# Altium integrated library Analog Devices Interface and Isolation Level Translators.IntLib: 67 symbols (part 2 of 3)
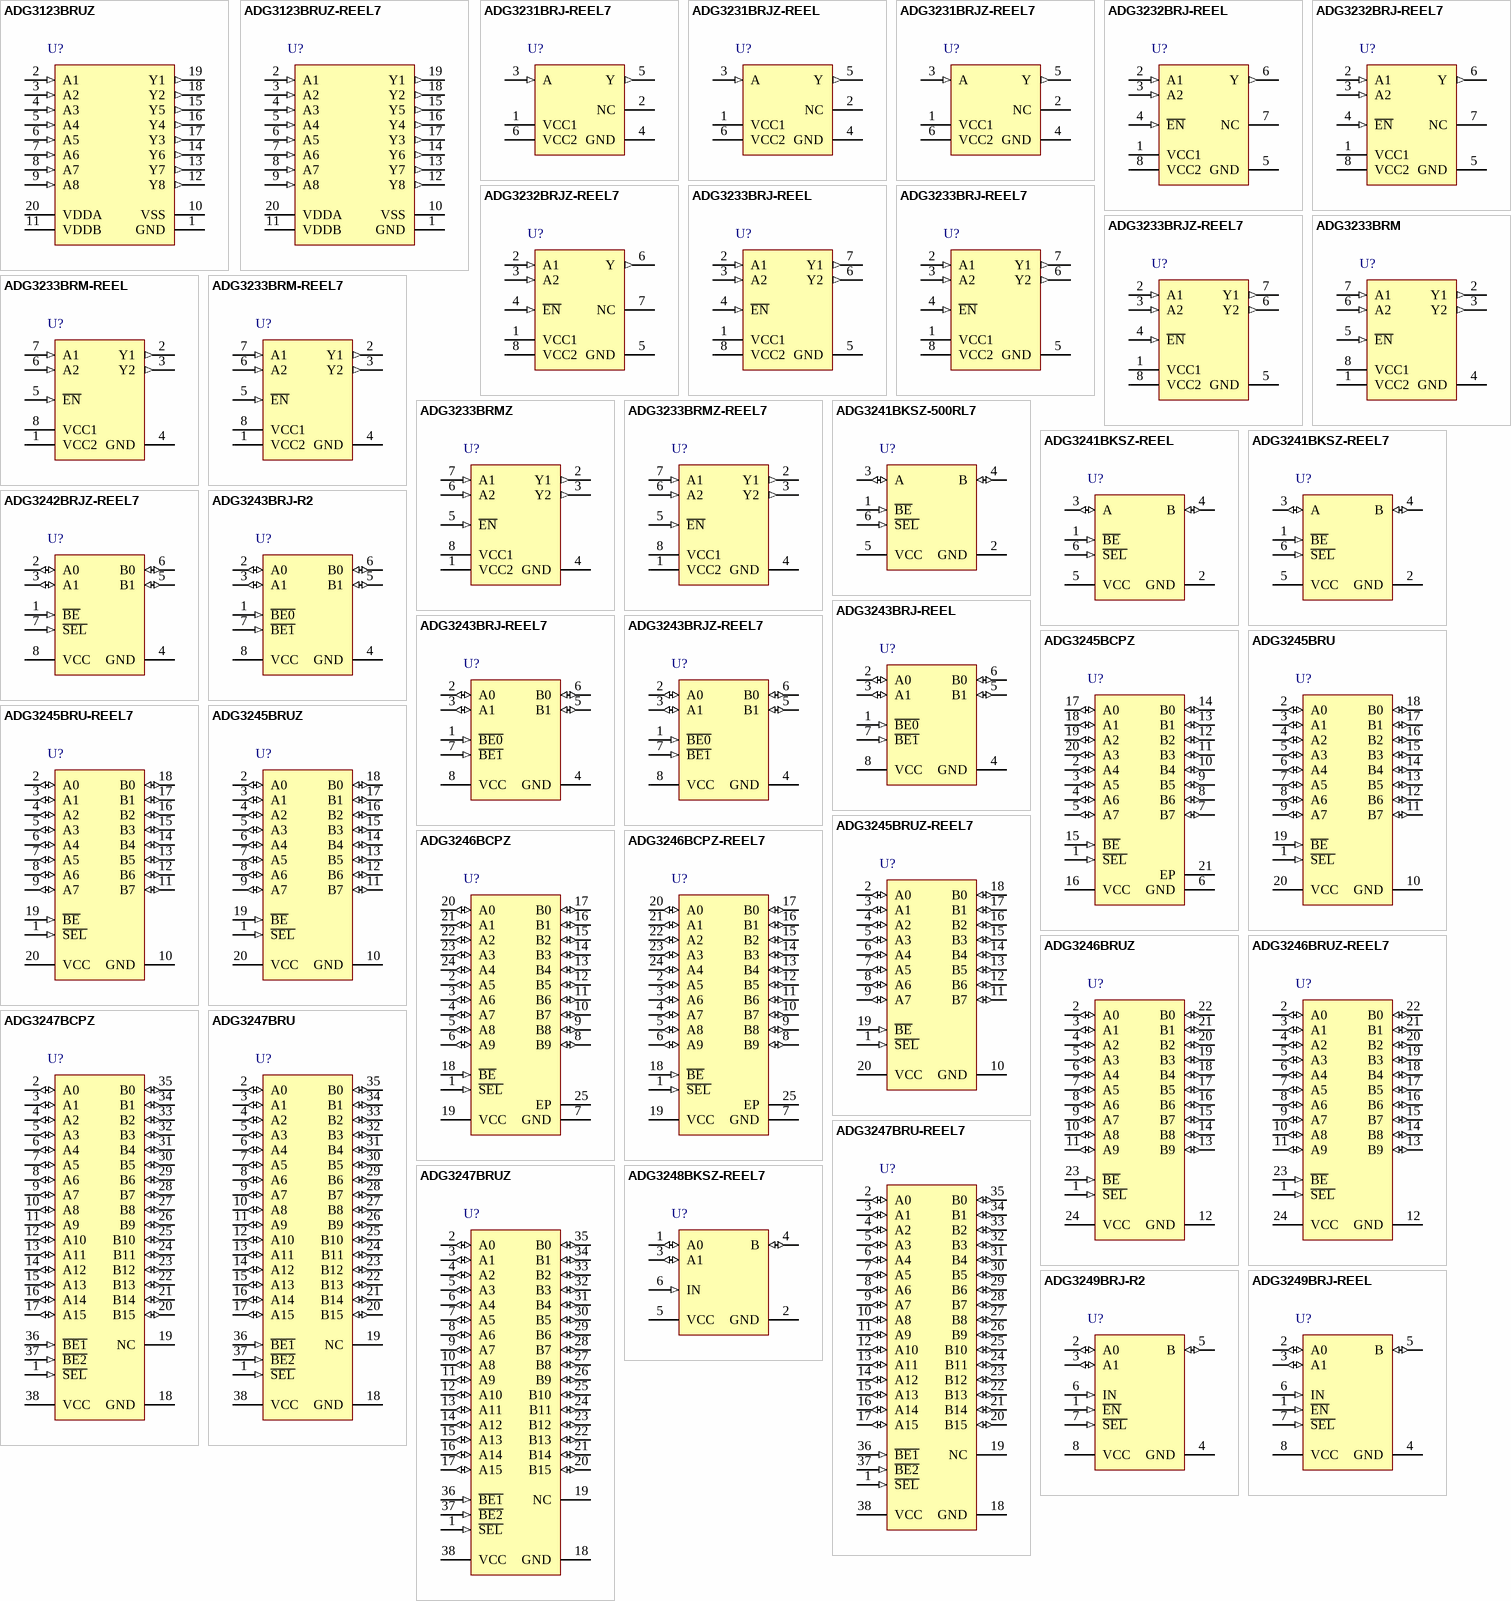
[diagram p2: symbols ADG3123BRUZ to ADG3249BRJ-REEL]

## ADG3245BRUZ-REEL7
designator U?
1244 Mbps, 2.5 V / 3.3 V, 8-Bit, 2-Port Level Translating, Bus Switch, 225 ps Prop Delay, -40 to 85 degC, 20-pin SOP (RU-20), Reel; Manufacturer: Analog Devices; PartNumber: ADG3245BRUZ-REEL7; ICC1: 1uA; DatasheetVersion: Rev. A; PackageVersion: Jan-03; PackageReference: RU-20; PackageDescription: 20-Pin Thin Shrink Small Outline Package, Body 6.5 x 4.4 mm, Pitch 0.65 mm; Supplier 1: Digi-Key; Supplier Part Number 1: ADG3245BRUZ-REEL7-ND; Supplier 2: Newark; Supplier Part Number 2: 59K1208; Supplier 3: Mouser; Supplier Part Number 3: 584-ADG3245BRUZ-R7; Data Rate (typ): 1244Mbps; Packing: Reel; Mounting Technology: Surface Mount; Code_JEDEC: MO-153AC; ComponentLink1Description: Manufacturer URL; ComponentLink1URL: http://www.analog.com/en/index.html; ComponentLink2Description: Datasheet; ComponentLink2URL: http://www.analog.com/static/imported-files/data_sheets/ADG3245.pdf; ComponentLink3Description: Package Specification; ComponentLink3URL: http://www.analog.com/static/imported-files/packages/364515793657813558433715854054607941441RU20.pdf
footprint ADI-RU-20_N (SOP, 20-Leads, Body 6.5x4.4mm, Pitch 0.65mm, IPC Medium Density)
footprint ADI-RU-20_L (SOP, 20-Leads, Body 6.5x4.4mm, Pitch 0.65mm, IPC High Density)
footprint ADI-RU-20_M (SOP, 20-Leads, Body 6.5x4.4mm, Pitch 0.65mm, IPC Low Density)
pins: 1 ~{SEL} (in) "Level Translation Select", 2 A0 (io) "Port A, Inputs or Outputs", 3 A1 (io) "Port A, Inputs or Outputs", 4 A2 (io) "Port A, Inputs or Outputs", 5 A3 (io) "Port A, Inputs or Outputs", 6 A4 (io) "Port A, Inputs or Outputs", 7 A5 (io) "Port A, Inputs or Outputs", 8 A6 (io) "Port A, Inputs or Outputs", 9 A7 (io) "Port A, Inputs or Outputs", 10 GND (power) "Ground (0 V) Reference.", 11 B7 (io) "Port B, Inputs or Outputs", 12 B6 (io) "Port B, Inputs or Outputs", 13 B5 (io) "Port B, Inputs or Outputs", 14 B4 (io) "Port B, Inputs or Outputs", 15 B3 (io) "Port B, Inputs or Outputs", 16 B2 (io) "Port B, Inputs or Outputs", 17 B1 (io) "Port B, Inputs or Outputs", 18 B0 (io) "Port B, Inputs or Outputs", 19 ~{BE} (in) "Bus Enable (Active Low)", 20 VCC (power) "Positive Power Supply Voltage."

## ADG3246BCPZ
designator U?
1244 Mbps, 2.5 V / 3.3 V, 10-Bit, 2-Port Level Translating, Bus Switch, 225 ps Prop Delay, -40 to 85 degC, 24-pin QFN (CP-24-1), Tray; Manufacturer: Analog Devices; PartNumber: ADG3246BCPZ; ICC1: 1uA; DatasheetVersion: Rev. 0; PackageVersion: May-04; PackageReference: CP-24-1; PackageDescription: 24-Pin Lead Frame Chip Scale Package, Body 4 x 4 mm, Pitch 0.5 mm; Supplier 1: Digi-Key; Supplier Part Number 1: ADG3246BCPZ-ND; Supplier 2: Newark; Supplier Part Number 2: 34M4787; Supplier 3: Mouser; Supplier Part Number 3: 584-ADG3246BCPZ; Data Rate (typ): 1244Mbps; Packing: Tray; Mounting Technology: Surface Mount; Code_JEDEC: MO-220-VGGD-2; ComponentLink1Description: Manufacturer URL; ComponentLink1URL: http://www.analog.com/en/index.html; ComponentLink2Description: Datasheet; ComponentLink2URL: http://www.analog.com/static/imported-files/data_sheets/ADG3246.pdf; ComponentLink3Description: Package Specification; ComponentLink3URL: http://www.analog.com/static/imported-files/packages/CP_24_1.pdf
footprint ADI-CP-24-1_N (QFN, 24-Leads, Body 4x4mm, Pitch 0.5mm, Thermal Pad 2.1x2.1mm, IPC Medium Density)
footprint ADI-CP-24-1_L (QFN, 24-Leads, Body 4x4mm, Pitch 0.5mm, Thermal Pad 2.1x2.1mm, IPC High Density)
footprint ADI-CP-24-1_M (QFN, 24-Leads, Body 4x4mm, Pitch 0.5mm, Thermal Pad 2.1x2.1mm, IPC Low Density)
pins: 1 ~{SEL} (in), 2 A5 (io), 3 A6 (io), 4 A7 (io), 5 A8 (io), 6 A9 (io), 7 GND (power), 8 B9 (io), 9 B8 (io), 10 B7 (io), 11 B6 (io), 12 B5 (io), 13 B4 (io), 14 B3 (io), 15 B2 (io), 16 B1 (io), 17 B0 (io), 18 ~{BE} (in), 19 VCC (power), 20 A0 (io), 21 A1 (io), 22 A2 (io), 23 A3 (io), 24 A4 (io), 25 EP

## ADG3246BCPZ-REEL7
designator U?
1244 Mbps, 2.5 V / 3.3 V, 10-Bit, 2-Port Level Translating, Bus Switch, 225 ps Prop Delay, -40 to 85 degC, 24-pin QFN (CP-24-1), Reel; Manufacturer: Analog Devices; PartNumber: ADG3246BCPZ-REEL7; ICC1: 1uA; DatasheetVersion: Rev. 0; PackageVersion: May-04; PackageReference: CP-24-1; PackageDescription: 24-Pin Lead Frame Chip Scale Package, Body 4 x 4 mm, Pitch 0.5 mm; Supplier 1: Digi-Key; Supplier Part Number 1: ADG3246BCPZ-REEL7-ND; Supplier 2: Mouser; Supplier Part Number 2: 584-ADG3246BCPZ-R7; Data Rate (typ): 1244Mbps; Packing: Reel; Mounting Technology: Surface Mount; Code_JEDEC: MO-220-VGGD-2; ComponentLink1Description: Manufacturer URL; ComponentLink1URL: http://www.analog.com/en/index.html; ComponentLink2Description: Datasheet; ComponentLink2URL: http://www.analog.com/static/imported-files/data_sheets/ADG3246.pdf; ComponentLink3Description: Package Specification; ComponentLink3URL: http://www.analog.com/static/imported-files/packages/CP_24_1.pdf
footprint ADI-CP-24-1_N (QFN, 24-Leads, Body 4x4mm, Pitch 0.5mm, Thermal Pad 2.1x2.1mm, IPC Medium Density)
footprint ADI-CP-24-1_L (QFN, 24-Leads, Body 4x4mm, Pitch 0.5mm, Thermal Pad 2.1x2.1mm, IPC High Density)
footprint ADI-CP-24-1_M (QFN, 24-Leads, Body 4x4mm, Pitch 0.5mm, Thermal Pad 2.1x2.1mm, IPC Low Density)
pins: 1 ~{SEL} (in), 2 A5 (io), 3 A6 (io), 4 A7 (io), 5 A8 (io), 6 A9 (io), 7 GND (power), 8 B9 (io), 9 B8 (io), 10 B7 (io), 11 B6 (io), 12 B5 (io), 13 B4 (io), 14 B3 (io), 15 B2 (io), 16 B1 (io), 17 B0 (io), 18 ~{BE} (in), 19 VCC (power), 20 A0 (io), 21 A1 (io), 22 A2 (io), 23 A3 (io), 24 A4 (io), 25 EP

## ADG3246BRUZ
designator U?
1244 Mbps, 2.5 V / 3.3 V, 10-Bit, 2-Port Level Translating, Bus Switch, 225 ps Prop Delay, -40 to 85 degC, 24-pin SOP (RU-24), Tube; Manufacturer: Analog Devices; PartNumber: ADG3246BRUZ; ICC1: 1uA; DatasheetVersion: Rev. 0; PackageVersion: Nov-02; PackageReference: RU-24; PackageDescription: 24-Pin Thin Shrink Small Outline Package, Body 7.8 x 4.4 mm, Pitch 0.65 mm; Supplier 1: Digi-Key; Supplier Part Number 1: ADG3246BRUZ-ND; Supplier 2: Newark; Supplier Part Number 2: 59K1209; Supplier 3: Mouser; Supplier Part Number 3: 584-ADG3246BRUZ; Data Rate (typ): 1244Mbps; Packing: Tube; Mounting Technology: Surface Mount; Code_JEDEC: MO-153AD; ComponentLink1Description: Manufacturer URL; ComponentLink1URL: http://www.analog.com/en/index.html; ComponentLink2Description: Datasheet; ComponentLink2URL: http://www.analog.com/static/imported-files/data_sheets/ADG3246.pdf; ComponentLink3Description: Package Specification; ComponentLink3URL: http://www.analog.com/static/imported-files/packages/380523655245964505593671154107510036154RU24.pdf
footprint ADI-RU-24_N (SOP, 24-Leads, Body 7.8x4.4mm, Pitch 0.65mm, IPC Medium Density)
footprint ADI-RU-24_L (SOP, 24-Leads, Body 7.8x4.4mm, Pitch 0.65mm, IPC High Density)
footprint ADI-RU-24_M (SOP, 24-Leads, Body 7.8x4.4mm, Pitch 0.65mm, IPC Low Density)
pins: 1 ~{SEL} (in) "Level Translation Select", 2 A0 (io) "Port A, Inputs or Outputs", 3 A1 (io) "Port A, Inputs or Outputs", 4 A2 (io) "Port A, Inputs or Outputs", 5 A3 (io) "Port A, Inputs or Outputs", 6 A4 (io) "Port A, Inputs or Outputs", 7 A5 (io) "Port A, Inputs or Outputs", 8 A6 (io) "Port A, Inputs or Outputs", 9 A7 (io) "Port A, Inputs or Outputs", 10 A8 (io) "Port A, Inputs or Outputs", 11 A9 (io) "Port A, Inputs or Outputs", 12 GND (power) "Ground (0 V) Reference.", 13 B9 (io) "Port B, Inputs or Outputs", 14 B8 (io) "Port B, Inputs or Outputs", 15 B7 (io) "Port B, Inputs or Outputs", 16 B6 (io) "Port B, Inputs or Outputs", 17 B5 (io) "Port B, Inputs or Outputs", 18 B4 (io) "Port B, Inputs or Outputs", 19 B3 (io) "Port B, Inputs or Outputs", 20 B2 (io) "Port B, Inputs or Outputs", 21 B1 (io) "Port B, Inputs or Outputs", 22 B0 (io) "Port B, Inputs or Outputs", 23 ~{BE} (in) "Bus Enable (Active Low)", 24 VCC (power) "Positive Power Supply Voltage."

## ADG3246BRUZ-REEL7
designator U?
1244 Mbps, 2.5 V / 3.3 V, 10-Bit, 2-Port Level Translating, Bus Switch, 225 ps Prop Delay, -40 to 85 degC, 24-pin SOP (RU-24), Reel; Manufacturer: Analog Devices; PartNumber: ADG3246BRUZ-REEL7; ICC1: 1uA; DatasheetVersion: Rev. 0; PackageVersion: Nov-02; PackageReference: RU-24; PackageDescription: 24-Pin Thin Shrink Small Outline Package, Body 7.8 x 4.4 mm, Pitch 0.65 mm; Supplier 1: Digi-Key; Supplier Part Number 1: ADG3246BRUZ-REEL7-ND; Supplier 2: Mouser; Supplier Part Number 2: 584-ADG3246BRUZ-R7; Data Rate (typ): 1244Mbps; Packing: Reel; Mounting Technology: Surface Mount; Code_JEDEC: MO-153AD; ComponentLink1Description: Manufacturer URL; ComponentLink1URL: http://www.analog.com/en/index.html; ComponentLink2Description: Datasheet; ComponentLink2URL: http://www.analog.com/static/imported-files/data_sheets/ADG3246.pdf; ComponentLink3Description: Package Specification; ComponentLink3URL: http://www.analog.com/static/imported-files/packages/380523655245964505593671154107510036154RU24.pdf
footprint ADI-RU-24_N (SOP, 24-Leads, Body 7.8x4.4mm, Pitch 0.65mm, IPC Medium Density)
footprint ADI-RU-24_L (SOP, 24-Leads, Body 7.8x4.4mm, Pitch 0.65mm, IPC High Density)
footprint ADI-RU-24_M (SOP, 24-Leads, Body 7.8x4.4mm, Pitch 0.65mm, IPC Low Density)
pins: 1 ~{SEL} (in) "Level Translation Select", 2 A0 (io) "Port A, Inputs or Outputs", 3 A1 (io) "Port A, Inputs or Outputs", 4 A2 (io) "Port A, Inputs or Outputs", 5 A3 (io) "Port A, Inputs or Outputs", 6 A4 (io) "Port A, Inputs or Outputs", 7 A5 (io) "Port A, Inputs or Outputs", 8 A6 (io) "Port A, Inputs or Outputs", 9 A7 (io) "Port A, Inputs or Outputs", 10 A8 (io) "Port A, Inputs or Outputs", 11 A9 (io) "Port A, Inputs or Outputs", 12 GND (power) "Ground (0 V) Reference.", 13 B9 (io) "Port B, Inputs or Outputs", 14 B8 (io) "Port B, Inputs or Outputs", 15 B7 (io) "Port B, Inputs or Outputs", 16 B6 (io) "Port B, Inputs or Outputs", 17 B5 (io) "Port B, Inputs or Outputs", 18 B4 (io) "Port B, Inputs or Outputs", 19 B3 (io) "Port B, Inputs or Outputs", 20 B2 (io) "Port B, Inputs or Outputs", 21 B1 (io) "Port B, Inputs or Outputs", 22 B0 (io) "Port B, Inputs or Outputs", 23 ~{BE} (in) "Bus Enable (Active Low)", 24 VCC (power) "Positive Power Supply Voltage."

## ADG3247BCPZ
designator U?
1244 Mbps, 2.5 V / 3.3 V, 16-Bit, 2-Port Level Translating, Bus Switch, 225 ps Prop Delay, -40 to 85 degC, 40-pin QFN (CP-40), Tray; Manufacturer: Analog Devices; PartNumber: ADG3247BCPZ; ICC1: 1uA; DatasheetVersion: Rev. 0; PackageVersion: 101306-A, 10/2006; PackageReference: CP-40-1; PackageDescription: 40-Pin Lead Frame Chip Scale Package, Body 6 x 6 mm, Pitch 0.5 mm; Supplier 1: Digi-Key; Supplier Part Number 1: ADG3247BCPZ-ND; Supplier 2: Mouser; Supplier Part Number 2: 584-ADG3247BCPZ; Data Rate (typ): 1244Mbps; Packing: Tray; Mounting Technology: Surface Mount; Code_JEDEC: MO-220-VJJD-2; ComponentLink1Description: Manufacturer URL; ComponentLink1URL: http://www.analog.com/en/index.html; ComponentLink2Description: Datasheet; ComponentLink2URL: http://www.analog.com/static/imported-files/data_sheets/ADG3247.pdf; ComponentLink3Description: Package Specification; ComponentLink3URL: http://www.analog.com/static/imported-files/packages/PKG_PDF/LFCSP(CP)/CP_40_1.pdf
footprint ADI-CP-40-1_N (QFN, 40-Leads, Body 6x6mm, Pitch 0.5mm, Thermal Pad 4.1x4.1mm, IPC Medium Density)
footprint ADI-CP-40-1_L (QFN, 40-Leads, Body 6x6mm, Pitch 0.5mm, Thermal Pad 4.1x4.1mm, IPC High Density)
footprint ADI-CP-40-1_M (QFN, 40-Leads, Body 6x6mm, Pitch 0.5mm, Thermal Pad 4.1x4.1mm, IPC Low Density)
pins: 1 ~{SEL} (in) "Level Translation Select", 2 A0 (io) "Port A, Inputs or Outputs", 3 A1 (io) "Port A, Inputs or Outputs", 4 A2 (io) "Port A, Inputs or Outputs", 5 A3 (io) "Port A, Inputs or Outputs", 6 A4 (io) "Port A, Inputs or Outputs", 7 A5 (io) "Port A, Inputs or Outputs", 8 A6 (io) "Port A, Inputs or Outputs", 9 A7 (io) "Port A, Inputs or Outputs", 10 A8 (io) "Port A, Inputs or Outputs", 11 A9 (io) "Port A, Inputs or Outputs", 12 A10 (io) "Port A, Inputs or Outputs", 13 A11 (io) "Port A, Inputs or Outputs", 14 A12 (io) "Port A, Inputs or Outputs", 15 A13 (io) "Port A, Inputs or Outputs", 16 A14 (io) "Port A, Inputs or Outputs", 17 A15 (io) "Port A, Inputs or Outputs", 18 GND (power) "Ground (0 V) Reference.", 19 NC "No connect", 20 B15 (io) "Port B, Inputs or Outputs", 21 B14 (io) "Port B, Inputs or Outputs", 22 B13 (io) "Port B, Inputs or Outputs", 23 B12 (io) "Port B, Inputs or Outputs", 24 B11 (io) "Port B, Inputs or Outputs", 25 B10 (io) "Port B, Inputs or Outputs", 26 B9 (io) "Port B, Inputs or Outputs", 27 B8 (io) "Port B, Inputs or Outputs", 28 B7 (io) "Port B, Inputs or Outputs", 29 B6 (io) "Port B, Inputs or Outputs", 30 B5 (io) "Port B, Inputs or Outputs", 31 B4 (io) "Port B, Inputs or Outputs", 32 B3 (io) "Port B, Inputs or Outputs", 33 B2 (io) "Port B, Inputs or Outputs", 34 B1 (io) "Port B, Inputs or Outputs", 35 B0 (io) "Port B, Inputs or Outputs", 36 ~{BE1} (in) "Bus Enable (Active Low)", 37 ~{BE2} (in) "Bus Enable (Active Low)", 38 VCC (power) "Positive Power Supply Voltage."

## ADG3247BRU
designator U?
1244 Mbps, 2.5 V / 3.3 V, 16-Bit, 2-Port Level Translating, Bus Switch, 225 ps Prop Delay, -40 to 85 degC, 38-Pin SOP (RU-38), Tube; Manufacturer: Analog Devices; PartNumber: ADG3247BRU; ICC1: 1uA; DatasheetVersion: Rev. 0; PackageVersion: Mar-03; PackageReference: RU-38; PackageDescription: 38-Pin Thin Shrink Small Outline Package, Body 9.7 x 4.4 mm, Pitch 0.5 mm; Supplier 1: Digi-Key; Supplier Part Number 1: ADG3247BRU-ND; Supplier 2: Mouser; Supplier Part Number 2: 584-ADG3247BRU; Data Rate (typ): 1244Mbps; Packing: Tube; Mounting Technology: Surface Mount; Code_JEDEC: MS-153BD-1; ComponentLink1Description: Manufacturer URL; ComponentLink1URL: http://www.analog.com/en/index.html; ComponentLink2Description: Datasheet; ComponentLink2URL: http://www.analog.com/static/imported-files/data_sheets/ADG3247.pdf; ComponentLink3Description: Package Specification; ComponentLink3URL: http://www.analog.com/static/imported-files/packages/36817415413609854197792024125RU38.pdf
footprint ADI-RU-38_N (SOP, 38-Leads, Body 9.7x4.4mm, Pitch 0.5mm, IPC Medium Density)
footprint ADI-RU-38_L (SOP, 38-Leads, Body 9.7x4.4mm, Pitch 0.5mm, IPC High Density)
footprint ADI-RU-38_M (SOP, 38-Leads, Body 9.7x4.4mm, Pitch 0.5mm, IPC Low Density)
pins: 1 ~{SEL} (in) "Level Translation Select", 2 A0 (io) "Port A, Inputs or Outputs", 3 A1 (io) "Port A, Inputs or Outputs", 4 A2 (io) "Port A, Inputs or Outputs", 5 A3 (io) "Port A, Inputs or Outputs", 6 A4 (io) "Port A, Inputs or Outputs", 7 A5 (io) "Port A, Inputs or Outputs", 8 A6 (io) "Port A, Inputs or Outputs", 9 A7 (io) "Port A, Inputs or Outputs", 10 A8 (io) "Port A, Inputs or Outputs", 11 A9 (io) "Port A, Inputs or Outputs", 12 A10 (io) "Port A, Inputs or Outputs", 13 A11 (io) "Port A, Inputs or Outputs", 14 A12 (io) "Port A, Inputs or Outputs", 15 A13 (io) "Port A, Inputs or Outputs", 16 A14 (io) "Port A, Inputs or Outputs", 17 A15 (io) "Port A, Inputs or Outputs", 18 GND (power) "Ground (0 V) Reference.", 19 NC "No connect", 20 B15 (io) "Port B, Inputs or Outputs", 21 B14 (io) "Port B, Inputs or Outputs", 22 B13 (io) "Port B, Inputs or Outputs", 23 B12 (io) "Port B, Inputs or Outputs", 24 B11 (io) "Port B, Inputs or Outputs", 25 B10 (io) "Port B, Inputs or Outputs", 26 B9 (io) "Port B, Inputs or Outputs", 27 B8 (io) "Port B, Inputs or Outputs", 28 B7 (io) "Port B, Inputs or Outputs", 29 B6 (io) "Port B, Inputs or Outputs", 30 B5 (io) "Port B, Inputs or Outputs", 31 B4 (io) "Port B, Inputs or Outputs", 32 B3 (io) "Port B, Inputs or Outputs", 33 B2 (io) "Port B, Inputs or Outputs", 34 B1 (io) "Port B, Inputs or Outputs", 35 B0 (io) "Port B, Inputs or Outputs", 36 ~{BE1} (in) "Bus Enable (Active Low)", 37 ~{BE2} (in) "Bus Enable (Active Low)", 38 VCC (power) "Positive Power Supply Voltage."

## ADG3247BRU-REEL7
designator U?
1244 Mbps, 2.5 V / 3.3 V, 16-Bit, 2-Port Level Translating, Bus Switch, 225 ps Prop Delay, -40 to 85 degC, 38-Pin SOP (RU-38), Reel; Manufacturer: Analog Devices; PartNumber: ADG3247BRU-REEL7; ICC1: 1uA; DatasheetVersion: Rev. 0; PackageVersion: Mar-03; PackageReference: RU-38; PackageDescription: 38-Pin Thin Shrink Small Outline Package, Body 9.7 x 4.4 mm, Pitch 0.5 mm; Supplier 1: Digi-Key; Supplier Part Number 1: ADG3247BRU-REEL7-ND; Supplier 2: Mouser; Supplier Part Number 2: 584-ADG3247BRU-R7; Data Rate (typ): 1244Mbps; Packing: Reel; Mounting Technology: Surface Mount; Code_JEDEC: MS-153BD-1; ComponentLink1Description: Manufacturer URL; ComponentLink1URL: http://www.analog.com/en/index.html; ComponentLink2Description: Datasheet; ComponentLink2URL: http://www.analog.com/static/imported-files/data_sheets/ADG3247.pdf; ComponentLink3Description: Package Specification; ComponentLink3URL: http://www.analog.com/static/imported-files/packages/36817415413609854197792024125RU38.pdf
footprint ADI-RU-38_N (SOP, 38-Leads, Body 9.7x4.4mm, Pitch 0.5mm, IPC Medium Density)
footprint ADI-RU-38_L (SOP, 38-Leads, Body 9.7x4.4mm, Pitch 0.5mm, IPC High Density)
footprint ADI-RU-38_M (SOP, 38-Leads, Body 9.7x4.4mm, Pitch 0.5mm, IPC Low Density)
pins: 1 ~{SEL} (in) "Level Translation Select", 2 A0 (io) "Port A, Inputs or Outputs", 3 A1 (io) "Port A, Inputs or Outputs", 4 A2 (io) "Port A, Inputs or Outputs", 5 A3 (io) "Port A, Inputs or Outputs", 6 A4 (io) "Port A, Inputs or Outputs", 7 A5 (io) "Port A, Inputs or Outputs", 8 A6 (io) "Port A, Inputs or Outputs", 9 A7 (io) "Port A, Inputs or Outputs", 10 A8 (io) "Port A, Inputs or Outputs", 11 A9 (io) "Port A, Inputs or Outputs", 12 A10 (io) "Port A, Inputs or Outputs", 13 A11 (io) "Port A, Inputs or Outputs", 14 A12 (io) "Port A, Inputs or Outputs", 15 A13 (io) "Port A, Inputs or Outputs", 16 A14 (io) "Port A, Inputs or Outputs", 17 A15 (io) "Port A, Inputs or Outputs", 18 GND (power) "Ground (0 V) Reference.", 19 NC "No connect", 20 B15 (io) "Port B, Inputs or Outputs", 21 B14 (io) "Port B, Inputs or Outputs", 22 B13 (io) "Port B, Inputs or Outputs", 23 B12 (io) "Port B, Inputs or Outputs", 24 B11 (io) "Port B, Inputs or Outputs", 25 B10 (io) "Port B, Inputs or Outputs", 26 B9 (io) "Port B, Inputs or Outputs", 27 B8 (io) "Port B, Inputs or Outputs", 28 B7 (io) "Port B, Inputs or Outputs", 29 B6 (io) "Port B, Inputs or Outputs", 30 B5 (io) "Port B, Inputs or Outputs", 31 B4 (io) "Port B, Inputs or Outputs", 32 B3 (io) "Port B, Inputs or Outputs", 33 B2 (io) "Port B, Inputs or Outputs", 34 B1 (io) "Port B, Inputs or Outputs", 35 B0 (io) "Port B, Inputs or Outputs", 36 ~{BE1} (in) "Bus Enable (Active Low)", 37 ~{BE2} (in) "Bus Enable (Active Low)", 38 VCC (power) "Positive Power Supply Voltage."

## ADG3247BRUZ
designator U?
1244 Mbps, 2.5 V / 3.3 V, 16-Bit, 2-Port Level Translating, Bus Switch, 225 ps Prop Delay, -40 to 85 degC, 38-pin SOP (RU-38), Tube; Manufacturer: Analog Devices; PartNumber: ADG3247BRUZ; ICC1: 1uA; DatasheetVersion: Rev. 0; PackageVersion: Mar-03; PackageReference: RU-38; PackageDescription: 38-Pin Thin Shrink Small Outline Package, Body 9.7 x 4.4 mm, Pitch 0.5 mm; Supplier 1: Digi-Key; Supplier Part Number 1: ADG3247BRUZ-ND; Supplier 2: Newark; Supplier Part Number 2: 59K1210; Supplier 3: Mouser; Supplier Part Number 3: 584-ADG3247BRUZ; Data Rate (typ): 1244Mbps; Packing: Tube; Mounting Technology: Surface Mount; Code_JEDEC: MS-153BD-1; ComponentLink1Description: Manufacturer URL; ComponentLink1URL: http://www.analog.com/en/index.html; ComponentLink2Description: Datasheet; ComponentLink2URL: http://www.analog.com/static/imported-files/data_sheets/ADG3247.pdf; ComponentLink3Description: Package Specification; ComponentLink3URL: http://www.analog.com/static/imported-files/packages/36817415413609854197792024125RU38.pdf
footprint ADI-RU-38_N (SOP, 38-Leads, Body 9.7x4.4mm, Pitch 0.5mm, IPC Medium Density)
footprint ADI-RU-38_L (SOP, 38-Leads, Body 9.7x4.4mm, Pitch 0.5mm, IPC High Density)
footprint ADI-RU-38_M (SOP, 38-Leads, Body 9.7x4.4mm, Pitch 0.5mm, IPC Low Density)
pins: 1 ~{SEL} (in) "Level Translation Select", 2 A0 (io) "Port A, Inputs or Outputs", 3 A1 (io) "Port A, Inputs or Outputs", 4 A2 (io) "Port A, Inputs or Outputs", 5 A3 (io) "Port A, Inputs or Outputs", 6 A4 (io) "Port A, Inputs or Outputs", 7 A5 (io) "Port A, Inputs or Outputs", 8 A6 (io) "Port A, Inputs or Outputs", 9 A7 (io) "Port A, Inputs or Outputs", 10 A8 (io) "Port A, Inputs or Outputs", 11 A9 (io) "Port A, Inputs or Outputs", 12 A10 (io) "Port A, Inputs or Outputs", 13 A11 (io) "Port A, Inputs or Outputs", 14 A12 (io) "Port A, Inputs or Outputs", 15 A13 (io) "Port A, Inputs or Outputs", 16 A14 (io) "Port A, Inputs or Outputs", 17 A15 (io) "Port A, Inputs or Outputs", 18 GND (power) "Ground (0 V) Reference.", 19 NC "No connect", 20 B15 (io) "Port B, Inputs or Outputs", 21 B14 (io) "Port B, Inputs or Outputs", 22 B13 (io) "Port B, Inputs or Outputs", 23 B12 (io) "Port B, Inputs or Outputs", 24 B11 (io) "Port B, Inputs or Outputs", 25 B10 (io) "Port B, Inputs or Outputs", 26 B9 (io) "Port B, Inputs or Outputs", 27 B8 (io) "Port B, Inputs or Outputs", 28 B7 (io) "Port B, Inputs or Outputs", 29 B6 (io) "Port B, Inputs or Outputs", 30 B5 (io) "Port B, Inputs or Outputs", 31 B4 (io) "Port B, Inputs or Outputs", 32 B3 (io) "Port B, Inputs or Outputs", 33 B2 (io) "Port B, Inputs or Outputs", 34 B1 (io) "Port B, Inputs or Outputs", 35 B0 (io) "Port B, Inputs or Outputs", 36 ~{BE1} (in) "Bus Enable (Active Low)", 37 ~{BE2} (in) "Bus Enable (Active Low)", 38 VCC (power) "Positive Power Supply Voltage."

## ADG3248BKSZ-REEL7
designator U?
1244 Mbps, 2.5 V / 3.3 V, 2:1 Multiplexer / Demultiplexer Bus Switch, 225 ps Prop Delay, -40 to 85 degC, 6-pin SOT (KS-6), Reel; Manufacturer: Analog Devices; PartNumber: ADG3248BKSZ-REEL7; ICC1: 1uA; DatasheetVersion: Rev. A; PackageVersion: 072809-A, 07/2009; PackageReference: KS-6; PackageDescription: 6-Pin Thin Shrink Small Outline Transistor Package, Body 2 x 1.25 mm, Pitch 0.65 mm; Supplier 1: Digi-Key; Supplier Part Number 1: ADG3248BKSZ-REEL7TR-ND; Supplier 2: Digi-Key; Supplier Part Number 2: ADG3248BKSZ-REEL7CT-ND; Supplier 3: Digi-Key; Supplier Part Number 3: ADG3248BKSZ-REEL7DKR-ND; Supplier 4: Farnell; Supplier Part Number 4: 2312834; Supplier 5: Newark; Supplier Part Number 5: 67W2634; Supplier 6: Newark; Supplier Part Number 6: 12M7785; Supplier 7: Mouser; Supplier Part Number 7: 584-ADG3248BKSZ-R7; Data Rate (typ): 1244Mbps; Packing: Reel; Mounting Technology: Surface Mount; Code_JEDEC: MO-203-AB; ComponentLink1Description: Manufacturer URL; ComponentLink1URL: http://www.analog.com/en/index.html; ComponentLink2Description: Datasheet; ComponentLink2URL: http://www.analog.com/static/imported-files/data_sheets/ADG3248.pdf; ComponentLink3Description: Package Specification; ComponentLink3URL: http://www.analog.com/static/imported-files/packages/PKG_PDF/SC70(KS)/KS_6.pdf
footprint ADI-KS-6_N (SOT23, 6-Leads, Body 2x1.25mm, Pitch 0.65mm, IPC Medium Density)
footprint ADI-KS-6_L (SOT23, 6-Leads, Body 2x1.25mm, Pitch 0.65mm, IPC High Density)
footprint ADI-KS-6_M (SOT23, 6-Leads, Body 2x1.25mm, Pitch 0.65mm, IPC Low Density)
pins: 1 A0 (io) "Port A0, Input or Output.", 2 GND (power) "Ground Reference.", 3 A1 (io) "Port A1, Input or Output.", 4 B (io) "Port B, Input or Output.", 5 VCC (power) "Positive Power Supply Voltage.", 6 IN (in) "Channel Select."

## ADG3249BRJ-R2
designator U?
1244 Mbps, 2.5 V / 3.3 V, 2:1 Multiplexer / Demultiplexer Bus Switch, 225 ps Prop Delay, -40 to 85 degC, 8-Pin SOT23 (RJ-8), Reel; Manufacturer: Analog Devices; PartNumber: ADG3249BRJ-R2; ICC1: 1uA; DatasheetVersion: Rev. 0; PackageVersion: 121608-A, 12/2008; PackageReference: RJ-8; PackageDescription: 8-Pin Small Outline Transistor Package, Body 2.9 x 1.6 mm, Pitch 0.65 mm; Supplier 1: Digi-Key; Supplier Part Number 1: ADG3249BRJ-R2TR-ND; Supplier 2: Digi-Key; Supplier Part Number 2: ADG3249BRJ-R2CT-ND; Supplier 3: Digi-Key; Supplier Part Number 3: ADG3249BRJ-R2DKR-ND; Supplier 4: Mouser; Supplier Part Number 4: 584-ADG3249BRJ-R2; Data Rate (typ): 1244Mbps; Packing: Reel; Mounting Technology: Surface Mount; Code_JEDEC: MO-178-BA; ComponentLink1Description: Manufacturer URL; ComponentLink1URL: http://www.analog.com/en/index.html; ComponentLink2Description: Datasheet; ComponentLink2URL: http://www.analog.com/static/imported-files/data_sheets/ADG3249.pdf; ComponentLink3Description: Package Specification; ComponentLink3URL: http://www.analog.com/static/imported-files/packages/PKG_PDF/SOT-23(RJ)/RJ_8.pdf
footprint ADI-RJ-8_V (SOT23, 8-Leads, Body 2.9x1.6mm, Pitch 0.65mm)
pins: 1 ~{EN} (in) "Enable (Active Low)", 2 A0 (io) "Port A0, Input or Output", 3 A1 (io) "Port A1, Input or Output", 4 GND (power) "Ground Reference", 5 B (io) "Port B, Input or Output", 6 IN (in) "Channel Select", 7 ~{SEL} (in) "Level Translation Select", 8 VCC (power) "Positive Power Supply Voltage"

## ADG3249BRJ-REEL
designator U?
1244 Mbps, 2.5 V / 3.3 V, 2:1 Multiplexer / Demultiplexer Bus Switch, 225 ps Prop Delay, -40 to 85 degC, 8-Pin SOT23 (RJ-8), Reel; Manufacturer: Analog Devices; PartNumber: ADG3249BRJ-REEL; ICC1: 1uA; DatasheetVersion: Rev. 0; PackageVersion: 121608-A, 12/2008; PackageReference: RJ-8; PackageDescription: 8-Pin Small Outline Transistor Package, Body 2.9 x 1.6 mm, Pitch 0.65 mm; Supplier 1: Digi-Key; Supplier Part Number 1: ADG3249BRJ-REEL-ND; Supplier 2: Mouser; Supplier Part Number 2: 584-ADG3249BRJ-R; Data Rate (typ): 1244Mbps; Packing: Reel; Mounting Technology: Surface Mount; Code_JEDEC: MO-178-BA; ComponentLink1Description: Manufacturer URL; ComponentLink1URL: http://www.analog.com/en/index.html; ComponentLink2Description: Datasheet; ComponentLink2URL: http://www.analog.com/static/imported-files/data_sheets/ADG3249.pdf; ComponentLink3Description: Package Specification; ComponentLink3URL: http://www.analog.com/static/imported-files/packages/PKG_PDF/SOT-23(RJ)/RJ_8.pdf
footprint ADI-RJ-8_V (SOT23, 8-Leads, Body 2.9x1.6mm, Pitch 0.65mm)
pins: 1 ~{EN} (in) "Enable (Active Low)", 2 A0 (io) "Port A0, Input or Output", 3 A1 (io) "Port A1, Input or Output", 4 GND (power) "Ground Reference", 5 B (io) "Port B, Input or Output", 6 IN (in) "Channel Select", 7 ~{SEL} (in) "Level Translation Select", 8 VCC (power) "Positive Power Supply Voltage"

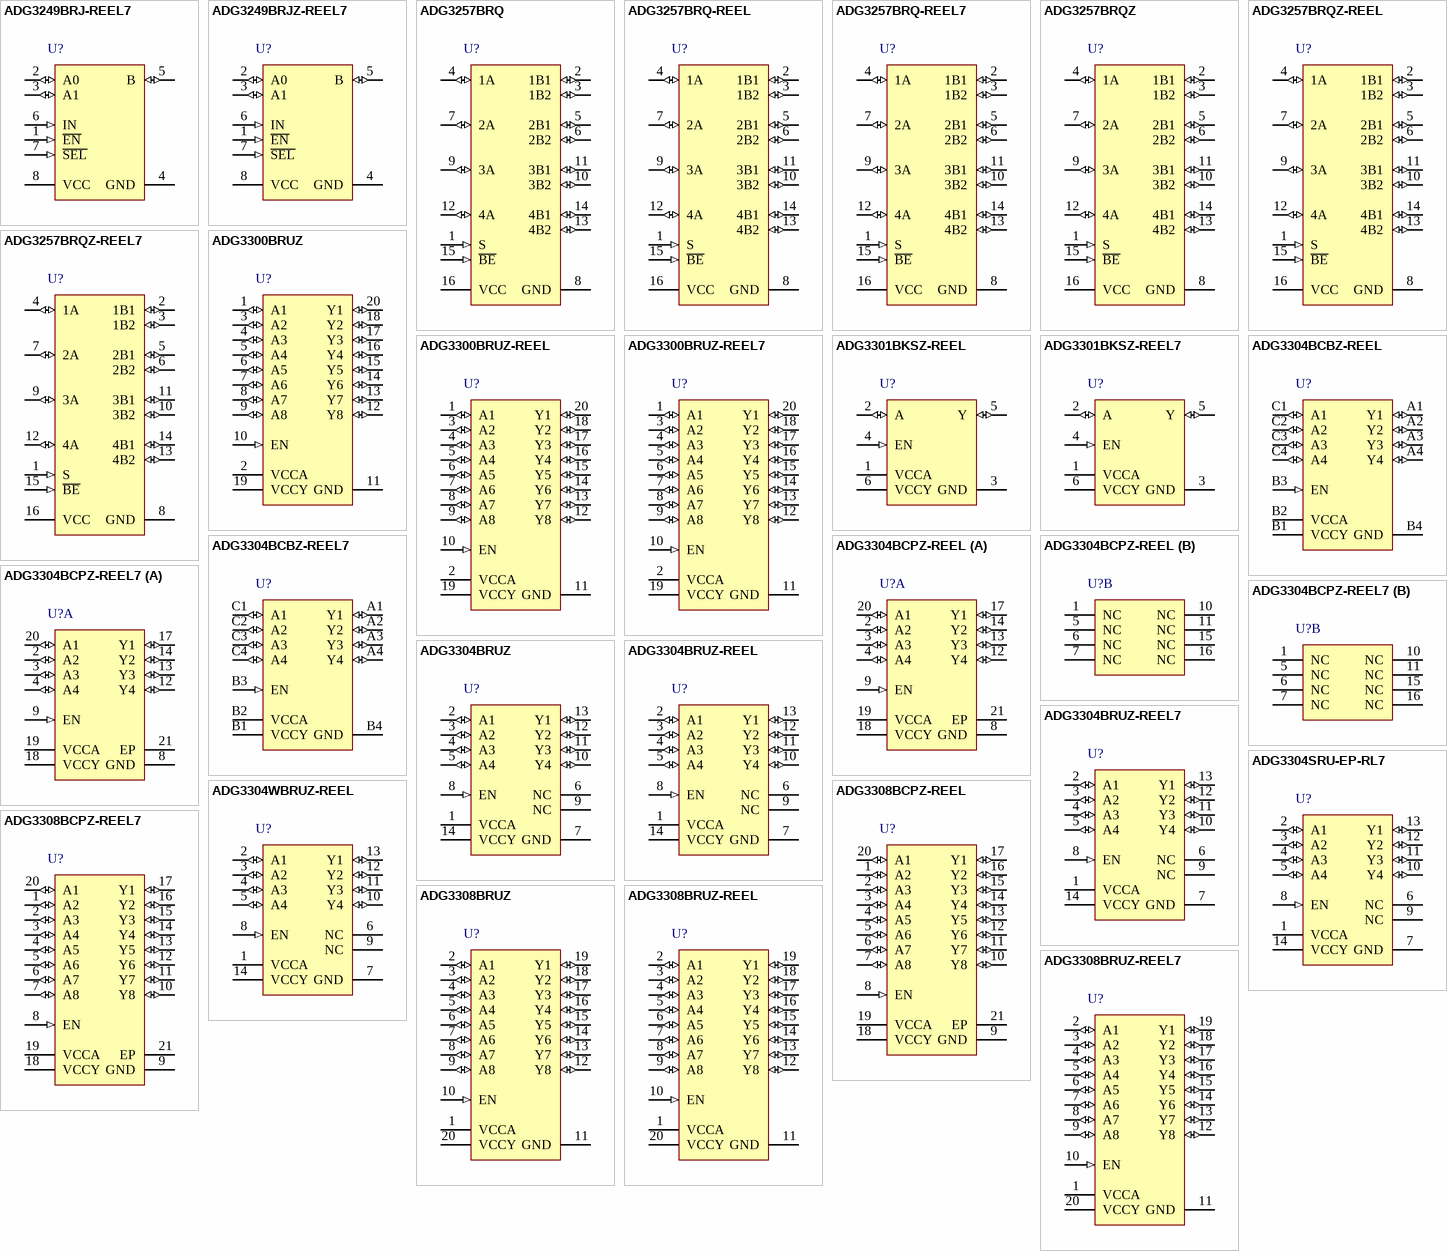
[diagram p1: symbols ADG3249BRJ-REEL7 to ADG3308BRUZ-REEL7]

## ADG3249BRJ-REEL7
designator U?
1244 Mbps, 2.5 V / 3.3 V, 2:1 Multiplexer / Demultiplexer Bus Switch, 225 ps Prop Delay, -40 to 85 degC, 8-Pin SOT23 (RJ-8), Reel; Manufacturer: Analog Devices; PartNumber: ADG3249BRJ-REEL7; ICC1: 1uA; DatasheetVersion: Rev. 0; PackageVersion: 121608-A, 12/2008; PackageReference: RJ-8; PackageDescription: 8-Pin Small Outline Transistor Package, Body 2.9 x 1.6 mm, Pitch 0.65 mm; Supplier 1: Digi-Key; Supplier Part Number 1: ADG3249BRJ-REEL7-ND; Supplier 2: Mouser; Supplier Part Number 2: 584-ADG3249BRJ-R7; Data Rate (typ): 1244Mbps; Packing: Reel; Mounting Technology: Surface Mount; Code_JEDEC: MO-178-BA; ComponentLink1Description: Manufacturer URL; ComponentLink1URL: http://www.analog.com/en/index.html; ComponentLink2Description: Datasheet; ComponentLink2URL: http://www.analog.com/static/imported-files/data_sheets/ADG3249.pdf; ComponentLink3Description: Package Specification; ComponentLink3URL: http://www.analog.com/static/imported-files/packages/PKG_PDF/SOT-23(RJ)/RJ_8.pdf
footprint ADI-RJ-8_V (SOT23, 8-Leads, Body 2.9x1.6mm, Pitch 0.65mm)
pins: 1 ~{EN} (in) "Enable (Active Low)", 2 A0 (io) "Port A0, Input or Output", 3 A1 (io) "Port A1, Input or Output", 4 GND (power) "Ground Reference", 5 B (io) "Port B, Input or Output", 6 IN (in) "Channel Select", 7 ~{SEL} (in) "Level Translation Select", 8 VCC (power) "Positive Power Supply Voltage"

## ADG3249BRJZ-REEL7
designator U?
1244 Mbps, 2.5 V / 3.3 V, 2:1 Multiplexer / Demultiplexer Bus Switch, 225 ps Prop Delay, -40 to 85 degC, 8-Pin SOT23 (RJ-8), Reel; Manufacturer: Analog Devices; PartNumber: ADG3249BRJZ-REEL7; ICC1: 1uA; DatasheetVersion: Rev. 0; PackageVersion: 121608-A, 12/2008; PackageReference: RJ-8; PackageDescription: 8-Pin Small Outline Transistor Package, Body 2.9 x 1.6 mm, Pitch 0.65 mm; Supplier 1: Digi-Key; Supplier Part Number 1: ADG3249BRJZ-REEL7TR-ND; Supplier 2: Digi-Key; Supplier Part Number 2: ADG3249BRJZ-REEL7CT-ND; Supplier 3: Digi-Key; Supplier Part Number 3: ADG3249BRJZ-REEL7DKR-ND; Supplier 4: Mouser; Supplier Part Number 4: 584-ADG3249BRJZ-R7; Data Rate (typ): 1244Mbps; Packing: Reel; Mounting Technology: Surface Mount; Code_JEDEC: MO-178-BA; ComponentLink1Description: Manufacturer URL; ComponentLink1URL: http://www.analog.com/en/index.html; ComponentLink2Description: Datasheet; ComponentLink2URL: http://www.analog.com/static/imported-files/data_sheets/ADG3249.pdf; ComponentLink3Description: Package Specification; ComponentLink3URL: http://www.analog.com/static/imported-files/packages/PKG_PDF/SOT-23(RJ)/RJ_8.pdf
footprint ADI-RJ-8_V (SOT23, 8-Leads, Body 2.9x1.6mm, Pitch 0.65mm)
pins: 1 ~{EN} (in) "Enable (Active Low)", 2 A0 (io) "Port A0, Input or Output", 3 A1 (io) "Port A1, Input or Output", 4 GND (power) "Ground Reference", 5 B (io) "Port B, Input or Output", 6 IN (in) "Channel Select", 7 ~{SEL} (in) "Level Translation Select", 8 VCC (power) "Positive Power Supply Voltage"

## ADG3257BRQ
designator U?
933 Mbps, High Speed, 3.3 V / 5 V Quad 2:1 Mux / Demux (4-Bit, 1 of 2) Bus Switch, 100 ps Prop Delay, -40 to 85 degC, 16-pin SOP (RQ-16), Tube; Manufacturer: Analog Devices; PartNumber: ADG3257BRQ; ICC1: 1uA; DatasheetVersion: Rev. E; PackageVersion: Aug-05; PackageReference: RQ-16; PackageDescription: 16-Pin Shrink Small Outline Package, Body 4.9 x 3.9 mm, Pitch 0.64 mm; Supplier 1: Digi-Key; Supplier Part Number 1: ADG3257BRQ-ND; Supplier 2: Mouser; Supplier Part Number 2: 584-ADG3257BRQ; Data Rate (typ): 933Mbps; Packing: Tube; Mounting Technology: Surface Mount; Code_JEDEC: MO-137-AB; ComponentLink1Description: Manufacturer URL; ComponentLink1URL: http://www.analog.com/en/index.html; ComponentLink2Description: Datasheet; ComponentLink2URL: http://www.analog.com/static/imported-files/data_sheets/ADG3257.pdf; ComponentLink3Description: Package Specification; ComponentLink3URL: http://www.analog.com/static/imported-files/packages/5595549651201762937RQ_16.pdf
footprint ADI-RQ-16_N (SOP, 16-Leads, Body 4.9x3.9mm, Pitch 0.64mm, IPC Medium Density)
footprint ADI-RQ-16_L (SOP, 16-Leads, Body 4.9x3.9mm, Pitch 0.64mm, IPC High Density)
footprint ADI-RQ-16_M (SOP, 16-Leads, Body 4.9x3.9mm, Pitch 0.64mm, IPC Low Density)
pins: 1 S (in) "Port Select.", 2 1B1 (io) "Port B, Inputs or Outputs.", 3 1B2 (io) "Port B, Inputs or Outputs.", 4 1A (io) "Port A, Inputs or Outputs.", 5 2B1 (io) "Port B, Inputs or Outputs.", 6 2B2 (io) "Port B, Inputs or Outputs.", 7 2A (io) "Port A, Inputs or Outputs.", 8 GND (power) "Negative Power Supply.", 9 3A (io) "Port A, Inputs or Outputs.", 10 3B2 (io) "Port B, Inputs or Outputs.", 11 3B1 (io) "Port B, Inputs or Outputs.", 12 4A (io) "Port A, Inputs or Outputs.", 13 4B2 (io) "Port B, Inputs or Outputs.", 14 4B1 (io) "Port B, Inputs or Outputs.", 15 ~{BE} (in) "Output Enable (Active Low).", 16 VCC (power) "Positive Power Supply."

## ADG3257BRQ-REEL
designator U?
933 Mbps, High Speed, 3.3 V / 5 V Quad 2:1 Mux / Demux (4-Bit, 1 of 2) Bus Switch, 100 ps Prop Delay, -40 to 85 degC, 16-pin SOP (RQ-16), Reel; Manufacturer: Analog Devices; PartNumber: ADG3257BRQ-REEL; ICC1: 1uA; DatasheetVersion: Rev. E; PackageVersion: Aug-05; PackageReference: RQ-16; PackageDescription: 16-Pin Shrink Small Outline Package, Body 4.9 x 3.9 mm, Pitch 0.64 mm; Supplier 1: Digi-Key; Supplier Part Number 1: ADG3257BRQ-REEL-ND; Supplier 2: Mouser; Supplier Part Number 2: 584-ADG3257BRQ-R; Data Rate (typ): 933Mbps; Packing: Reel; Mounting Technology: Surface Mount; Code_JEDEC: MO-137-AB; ComponentLink1Description: Manufacturer URL; ComponentLink1URL: http://www.analog.com/en/index.html; ComponentLink2Description: Datasheet; ComponentLink2URL: http://www.analog.com/static/imported-files/data_sheets/ADG3257.pdf; ComponentLink3Description: Package Specification; ComponentLink3URL: http://www.analog.com/static/imported-files/packages/5595549651201762937RQ_16.pdf
footprint ADI-RQ-16_N (SOP, 16-Leads, Body 4.9x3.9mm, Pitch 0.64mm, IPC Medium Density)
footprint ADI-RQ-16_L (SOP, 16-Leads, Body 4.9x3.9mm, Pitch 0.64mm, IPC High Density)
footprint ADI-RQ-16_M (SOP, 16-Leads, Body 4.9x3.9mm, Pitch 0.64mm, IPC Low Density)
pins: 1 S (in) "Port Select.", 2 1B1 (io) "Port B, Inputs or Outputs.", 3 1B2 (io) "Port B, Inputs or Outputs.", 4 1A (io) "Port A, Inputs or Outputs.", 5 2B1 (io) "Port B, Inputs or Outputs.", 6 2B2 (io) "Port B, Inputs or Outputs.", 7 2A (io) "Port A, Inputs or Outputs.", 8 GND (power) "Negative Power Supply.", 9 3A (io) "Port A, Inputs or Outputs.", 10 3B2 (io) "Port B, Inputs or Outputs.", 11 3B1 (io) "Port B, Inputs or Outputs.", 12 4A (io) "Port A, Inputs or Outputs.", 13 4B2 (io) "Port B, Inputs or Outputs.", 14 4B1 (io) "Port B, Inputs or Outputs.", 15 ~{BE} (in) "Output Enable (Active Low).", 16 VCC (power) "Positive Power Supply."

## ADG3257BRQ-REEL7
designator U?
933 Mbps, High Speed, 3.3 V / 5 V Quad 2:1 Mux / Demux (4-Bit, 1 of 2) Bus Switch, 100 ps Prop Delay, -40 to 85 degC, 16-pin SOP (RQ-16), Reel; Manufacturer: Analog Devices; PartNumber: ADG3257BRQ-REEL7; ICC1: 1uA; DatasheetVersion: Rev. E; PackageVersion: Aug-05; PackageReference: RQ-16; PackageDescription: 16-Pin Shrink Small Outline Package, Body 4.9 x 3.9 mm, Pitch 0.64 mm; Supplier 1: Digi-Key; Supplier Part Number 1: ADG3257BRQ-REEL7-ND; Data Rate (typ): 933Mbps; Packing: Reel; Mounting Technology: Surface Mount; Code_JEDEC: MO-137-AB; ComponentLink1Description: Manufacturer URL; ComponentLink1URL: http://www.analog.com/en/index.html; ComponentLink2Description: Datasheet; ComponentLink2URL: http://www.analog.com/static/imported-files/data_sheets/ADG3257.pdf; ComponentLink3Description: Package Specification; ComponentLink3URL: http://www.analog.com/static/imported-files/packages/5595549651201762937RQ_16.pdf
footprint ADI-RQ-16_N (SOP, 16-Leads, Body 4.9x3.9mm, Pitch 0.64mm, IPC Medium Density)
footprint ADI-RQ-16_L (SOP, 16-Leads, Body 4.9x3.9mm, Pitch 0.64mm, IPC High Density)
footprint ADI-RQ-16_M (SOP, 16-Leads, Body 4.9x3.9mm, Pitch 0.64mm, IPC Low Density)
pins: 1 S (in) "Port Select.", 2 1B1 (io) "Port B, Inputs or Outputs.", 3 1B2 (io) "Port B, Inputs or Outputs.", 4 1A (io) "Port A, Inputs or Outputs.", 5 2B1 (io) "Port B, Inputs or Outputs.", 6 2B2 (io) "Port B, Inputs or Outputs.", 7 2A (io) "Port A, Inputs or Outputs.", 8 GND (power) "Negative Power Supply.", 9 3A (io) "Port A, Inputs or Outputs.", 10 3B2 (io) "Port B, Inputs or Outputs.", 11 3B1 (io) "Port B, Inputs or Outputs.", 12 4A (io) "Port A, Inputs or Outputs.", 13 4B2 (io) "Port B, Inputs or Outputs.", 14 4B1 (io) "Port B, Inputs or Outputs.", 15 ~{BE} (in) "Output Enable (Active Low).", 16 VCC (power) "Positive Power Supply."

## ADG3257BRQZ
designator U?
933 Mbps, High Speed, 3.3 V / 5 V Quad 2:1 Mux / Demux (4-Bit, 1 of 2) Bus Switch, 100 ps Prop Delay, -40 to 85 degC, 16-pin SOP (RQ-16), Tube; Manufacturer: Analog Devices; PartNumber: ADG3257BRQZ; ICC1: 1uA; DatasheetVersion: Rev. E; PackageVersion: Aug-05; PackageReference: RQ-16; PackageDescription: 16-Pin Shrink Small Outline Package, Body 4.9 x 3.9 mm, Pitch 0.64 mm; Supplier 1: Digi-Key; Supplier Part Number 1: ADG3257BRQZ-ND; Supplier 2: Farnell; Supplier Part Number 2: 1531308; Supplier 3: Newark; Supplier Part Number 3: 59K1211; Supplier 4: Mouser; Supplier Part Number 4: 584-ADG3257BRQZ; Data Rate (typ): 933Mbps; Packing: Tube; Mounting Technology: Surface Mount; Code_JEDEC: MO-137-AB; ComponentLink1Description: Manufacturer URL; ComponentLink1URL: http://www.analog.com/en/index.html; ComponentLink2Description: Datasheet; ComponentLink2URL: http://www.analog.com/static/imported-files/data_sheets/ADG3257.pdf; ComponentLink3Description: Package Specification; ComponentLink3URL: http://www.analog.com/static/imported-files/packages/5595549651201762937RQ_16.pdf
footprint ADI-RQ-16_N (SOP, 16-Leads, Body 4.9x3.9mm, Pitch 0.64mm, IPC Medium Density)
footprint ADI-RQ-16_L (SOP, 16-Leads, Body 4.9x3.9mm, Pitch 0.64mm, IPC High Density)
footprint ADI-RQ-16_M (SOP, 16-Leads, Body 4.9x3.9mm, Pitch 0.64mm, IPC Low Density)
pins: 1 S (in) "Port Select.", 2 1B1 (io) "Port B, Inputs or Outputs.", 3 1B2 (io) "Port B, Inputs or Outputs.", 4 1A (io) "Port A, Inputs or Outputs.", 5 2B1 (io) "Port B, Inputs or Outputs.", 6 2B2 (io) "Port B, Inputs or Outputs.", 7 2A (io) "Port A, Inputs or Outputs.", 8 GND (power) "Negative Power Supply.", 9 3A (io) "Port A, Inputs or Outputs.", 10 3B2 (io) "Port B, Inputs or Outputs.", 11 3B1 (io) "Port B, Inputs or Outputs.", 12 4A (io) "Port A, Inputs or Outputs.", 13 4B2 (io) "Port B, Inputs or Outputs.", 14 4B1 (io) "Port B, Inputs or Outputs.", 15 ~{BE} (in) "Output Enable (Active Low).", 16 VCC (power) "Positive Power Supply."

## ADG3257BRQZ-REEL
designator U?
933 Mbps, High Speed, 3.3 V / 5 V Quad 2:1 Mux / Demux (4-Bit, 1 of 2) Bus Switch, 100 ps Prop Delay, -40 to 85 degC, 16-pin SOP (RQ-16), Reel; Manufacturer: Analog Devices; PartNumber: ADG3257BRQZ-REEL; ICC1: 1uA; DatasheetVersion: Rev. E; PackageVersion: Aug-05; PackageReference: RQ-16; PackageDescription: 16-Pin Shrink Small Outline Package, Body 4.9 x 3.9 mm, Pitch 0.64 mm; Supplier 1: Digi-Key; Supplier Part Number 1: ADG3257BRQZ-REEL-ND; Supplier 2: Mouser; Supplier Part Number 2: 584-ADG3257BRQZ-R; Data Rate (typ): 933Mbps; Packing: Reel; Mounting Technology: Surface Mount; Code_JEDEC: MO-137-AB; ComponentLink1Description: Manufacturer URL; ComponentLink1URL: http://www.analog.com/en/index.html; ComponentLink2Description: Datasheet; ComponentLink2URL: http://www.analog.com/static/imported-files/data_sheets/ADG3257.pdf; ComponentLink3Description: Package Specification; ComponentLink3URL: http://www.analog.com/static/imported-files/packages/5595549651201762937RQ_16.pdf
footprint ADI-RQ-16_N (SOP, 16-Leads, Body 4.9x3.9mm, Pitch 0.64mm, IPC Medium Density)
footprint ADI-RQ-16_L (SOP, 16-Leads, Body 4.9x3.9mm, Pitch 0.64mm, IPC High Density)
footprint ADI-RQ-16_M (SOP, 16-Leads, Body 4.9x3.9mm, Pitch 0.64mm, IPC Low Density)
pins: 1 S (in) "Port Select.", 2 1B1 (io) "Port B, Inputs or Outputs.", 3 1B2 (io) "Port B, Inputs or Outputs.", 4 1A (io) "Port A, Inputs or Outputs.", 5 2B1 (io) "Port B, Inputs or Outputs.", 6 2B2 (io) "Port B, Inputs or Outputs.", 7 2A (io) "Port A, Inputs or Outputs.", 8 GND (power) "Negative Power Supply.", 9 3A (io) "Port A, Inputs or Outputs.", 10 3B2 (io) "Port B, Inputs or Outputs.", 11 3B1 (io) "Port B, Inputs or Outputs.", 12 4A (io) "Port A, Inputs or Outputs.", 13 4B2 (io) "Port B, Inputs or Outputs.", 14 4B1 (io) "Port B, Inputs or Outputs.", 15 ~{BE} (in) "Output Enable (Active Low).", 16 VCC (power) "Positive Power Supply."

## ADG3257BRQZ-REEL7
designator U?
933 Mbps, High Speed, 3.3 V / 5 V Quad 2:1 Mux / Demux (4-Bit, 1 of 2) Bus Switch, 100 ps Prop Delay, -40 to 85 degC, 16-pin SOP (RQ-16), Reel; Manufacturer: Analog Devices; PartNumber: ADG3257BRQZ-REEL7; ICC1: 1uA; DatasheetVersion: Rev. E; PackageVersion: Aug-05; PackageReference: RQ-16; PackageDescription: 16-Pin Shrink Small Outline Package, Body 4.9 x 3.9 mm, Pitch 0.64 mm; Supplier 1: Digi-Key; Supplier Part Number 1: ADG3257BRQZ-REEL7TR-ND; Supplier 2: Digi-Key; Supplier Part Number 2: ADG3257BRQZ-REEL7CT-ND; Supplier 3: Digi-Key; Supplier Part Number 3: ADG3257BRQZ-REEL7DKR-ND; Supplier 4: Mouser; Supplier Part Number 4: 584-ADG3257BRQZ-R7; Data Rate (typ): 933Mbps; Packing: Reel; Mounting Technology: Surface Mount; Code_JEDEC: MO-137-AB; ComponentLink1Description: Manufacturer URL; ComponentLink1URL: http://www.analog.com/en/index.html; ComponentLink2Description: Datasheet; ComponentLink2URL: http://www.analog.com/static/imported-files/data_sheets/ADG3257.pdf; ComponentLink3Description: Package Specification; ComponentLink3URL: http://www.analog.com/static/imported-files/packages/5595549651201762937RQ_16.pdf
footprint ADI-RQ-16_N (SOP, 16-Leads, Body 4.9x3.9mm, Pitch 0.64mm, IPC Medium Density)
footprint ADI-RQ-16_L (SOP, 16-Leads, Body 4.9x3.9mm, Pitch 0.64mm, IPC High Density)
footprint ADI-RQ-16_M (SOP, 16-Leads, Body 4.9x3.9mm, Pitch 0.64mm, IPC Low Density)
pins: 1 S (in) "Port Select.", 2 1B1 (io) "Port B, Inputs or Outputs.", 3 1B2 (io) "Port B, Inputs or Outputs.", 4 1A (io) "Port A, Inputs or Outputs.", 5 2B1 (io) "Port B, Inputs or Outputs.", 6 2B2 (io) "Port B, Inputs or Outputs.", 7 2A (io) "Port A, Inputs or Outputs.", 8 GND (power) "Negative Power Supply.", 9 3A (io) "Port A, Inputs or Outputs.", 10 3B2 (io) "Port B, Inputs or Outputs.", 11 3B1 (io) "Port B, Inputs or Outputs.", 12 4A (io) "Port A, Inputs or Outputs.", 13 4B2 (io) "Port B, Inputs or Outputs.", 14 4B1 (io) "Port B, Inputs or Outputs.", 15 ~{BE} (in) "Output Enable (Active Low).", 16 VCC (power) "Positive Power Supply."

## ADG3300BRUZ
designator U?
Low Voltage 1.15 V to 5.5 V, 8-Channel Bidirectional Logic Level Translator, -40 to 85 degC, 20-pin SOP (RU-20), Tube; Manufacturer: Analog Devices; PartNumber: ADG3300BRUZ; Bus Enable Time (typ): 1us; DatasheetVersion: Rev. 0; PackageVersion: Jan-03; PackageReference: RU-20; PackageDescription: 20-Pin Thin Shrink Small Outline Package, Body 6.5 x 4.4 mm, Pitch 0.65 mm; Supplier 1: Digi-Key; Supplier Part Number 1: ADG3300BRUZ-ND; Supplier 2: Farnell; Supplier Part Number 2: 1078229; Supplier 3: Newark; Supplier Part Number 3: 19M0671; Supplier 4: Mouser; Supplier Part Number 4: 584-ADG3300BRUZ; Mounting Technology: Surface Mount; Code_JEDEC: MO-153AC; ComponentLink1Description: Manufacturer URL; ComponentLink1URL: http://www.analog.com/en/index.html; ComponentLink2Description: Datasheet; ComponentLink2URL: http://www.analog.com/static/imported-files/data_sheets/ADG3300.pdf; ComponentLink3Description: Package Specification; ComponentLink3URL: http://www.analog.com/static/imported-files/packages/364515793657813558433715854054607941441RU20.pdf
footprint ADI-RU-20_N (SOP, 20-Leads, Body 6.5x4.4mm, Pitch 0.65mm, IPC Medium Density)
footprint ADI-RU-20_L (SOP, 20-Leads, Body 6.5x4.4mm, Pitch 0.65mm, IPC High Density)
footprint ADI-RU-20_M (SOP, 20-Leads, Body 6.5x4.4mm, Pitch 0.65mm, IPC Low Density)
pins: 1 A1 (io) "Input/Output A1. Referenced to VCCA.", 2 VCCA (power) "Power Supply Voltage Input for the A1 to A8 I/O pins (1.15 V =< VCCA < VCCY).", 3 A2 (io) "Input/Output A2. Referenced to VCCA.", 4 A3 (io) "Input/Output A3. Referenced to VCCA.", 5 A4 (io) "Input/Output A4. Referenced to VCCA.", 6 A5 (io) "Input/Output A5. Referenced to VCCA.", 7 A6 (io) "Input/Output A6. Referenced to VCCA.", 8 A7 (io) "Input/Output A7. Referenced to VCCA.", 9 A8 (io) "Input/Output A8. Referenced to VCCA.", 10 EN (in) "Active High Enable Input.", 11 GND (power) "Ground.", 12 Y8 (io) "Input/Output Y8. Referenced to VCCY.", 13 Y7 (io) "Input/Output Y7. Referenced to VCCY.", 14 Y6 (io) "Input/Output Y6. Referenced to VCCY.", 15 Y5 (io) "Input/Output Y5. Referenced to VCCY.", 16 Y4 (io) "Input/Output Y4. Referenced to VCCY.", 17 Y3 (io) "Input/Output Y3. Referenced to VCCY.", 18 Y2 (io) "Input/Output Y2. Referenced to VCCY.", 19 VCCY (power) "Power Supply Voltage Input for the Y1 to Y8 I/O pins (1.65 V =< VCCY =< 5.5 V).", 20 Y1 (io) "Input/Output Y1. Referenced to VCCY."

## ADG3300BRUZ-REEL
designator U?
Low Voltage 1.15 V to 5.5 V, 8-Channel Bidirectional Logic Level Translator, -40 to 85 degC, 20-pin SOP (RU-20), Reel; Manufacturer: Analog Devices; PartNumber: ADG3300BRUZ-REEL; Bus Enable Time (typ): 1us; DatasheetVersion: Rev. 0; PackageVersion: Jan-03; PackageReference: RU-20; PackageDescription: 20-Pin Thin Shrink Small Outline Package, Body 6.5 x 4.4 mm, Pitch 0.65 mm; Supplier 1: Digi-Key; Supplier Part Number 1: ADG3300BRUZ-REEL-ND; Mounting Technology: Surface Mount; Code_JEDEC: MO-153AC; ComponentLink1Description: Manufacturer URL; ComponentLink1URL: http://www.analog.com/en/index.html; ComponentLink2Description: Datasheet; ComponentLink2URL: http://www.analog.com/static/imported-files/data_sheets/ADG3300.pdf; ComponentLink3Description: Package Specification; ComponentLink3URL: http://www.analog.com/static/imported-files/packages/364515793657813558433715854054607941441RU20.pdf
footprint ADI-RU-20_N (SOP, 20-Leads, Body 6.5x4.4mm, Pitch 0.65mm, IPC Medium Density)
footprint ADI-RU-20_L (SOP, 20-Leads, Body 6.5x4.4mm, Pitch 0.65mm, IPC High Density)
footprint ADI-RU-20_M (SOP, 20-Leads, Body 6.5x4.4mm, Pitch 0.65mm, IPC Low Density)
pins: 1 A1 (io) "Input/Output A1. Referenced to VCCA.", 2 VCCA (power) "Power Supply Voltage Input for the A1 to A8 I/O pins (1.15 V =< VCCA < VCCY).", 3 A2 (io) "Input/Output A2. Referenced to VCCA.", 4 A3 (io) "Input/Output A3. Referenced to VCCA.", 5 A4 (io) "Input/Output A4. Referenced to VCCA.", 6 A5 (io) "Input/Output A5. Referenced to VCCA.", 7 A6 (io) "Input/Output A6. Referenced to VCCA.", 8 A7 (io) "Input/Output A7. Referenced to VCCA.", 9 A8 (io) "Input/Output A8. Referenced to VCCA.", 10 EN (in) "Active High Enable Input.", 11 GND (power) "Ground.", 12 Y8 (io) "Input/Output Y8. Referenced to VCCY.", 13 Y7 (io) "Input/Output Y7. Referenced to VCCY.", 14 Y6 (io) "Input/Output Y6. Referenced to VCCY.", 15 Y5 (io) "Input/Output Y5. Referenced to VCCY.", 16 Y4 (io) "Input/Output Y4. Referenced to VCCY.", 17 Y3 (io) "Input/Output Y3. Referenced to VCCY.", 18 Y2 (io) "Input/Output Y2. Referenced to VCCY.", 19 VCCY (power) "Power Supply Voltage Input for the Y1 to Y8 I/O pins (1.65 V =< VCCY =< 5.5 V).", 20 Y1 (io) "Input/Output Y1. Referenced to VCCY."

## ADG3300BRUZ-REEL7
designator U?
Low Voltage 1.15 V to 5.5 V, 8-Channel Bidirectional Logic Level Translator, -40 to 85 degC, 20-pin SOP (RU-20), Reel; Manufacturer: Analog Devices; PartNumber: ADG3300BRUZ-REEL7; Bus Enable Time (typ): 1us; DatasheetVersion: Rev. 0; PackageVersion: Jan-03; PackageReference: RU-20; PackageDescription: 20-Pin Thin Shrink Small Outline Package, Body 6.5 x 4.4 mm, Pitch 0.65 mm; Supplier 1: Digi-Key; Supplier Part Number 1: ADG3300BRUZ-REEL7TR-ND; Supplier 2: Digi-Key; Supplier Part Number 2: ADG3300BRUZ-REEL7CT-ND; Supplier 3: Digi-Key; Supplier Part Number 3: ADG3300BRUZ-REEL7DKR-ND; Supplier 4: Newark; Supplier Part Number 4: 14R8669; Supplier 5: Mouser; Supplier Part Number 5: 584-ADG3300BRUZ-R7; Mounting Technology: Surface Mount; Code_JEDEC: MO-153AC; ComponentLink1Description: Manufacturer URL; ComponentLink1URL: http://www.analog.com/en/index.html; ComponentLink2Description: Datasheet; ComponentLink2URL: http://www.analog.com/static/imported-files/data_sheets/ADG3300.pdf; ComponentLink3Description: Package Specification; ComponentLink3URL: http://www.analog.com/static/imported-files/packages/364515793657813558433715854054607941441RU20.pdf
footprint ADI-RU-20_N (SOP, 20-Leads, Body 6.5x4.4mm, Pitch 0.65mm, IPC Medium Density)
footprint ADI-RU-20_L (SOP, 20-Leads, Body 6.5x4.4mm, Pitch 0.65mm, IPC High Density)
footprint ADI-RU-20_M (SOP, 20-Leads, Body 6.5x4.4mm, Pitch 0.65mm, IPC Low Density)
pins: 1 A1 (io) "Input/Output A1. Referenced to VCCA.", 2 VCCA (power) "Power Supply Voltage Input for the A1 to A8 I/O pins (1.15 V =< VCCA < VCCY).", 3 A2 (io) "Input/Output A2. Referenced to VCCA.", 4 A3 (io) "Input/Output A3. Referenced to VCCA.", 5 A4 (io) "Input/Output A4. Referenced to VCCA.", 6 A5 (io) "Input/Output A5. Referenced to VCCA.", 7 A6 (io) "Input/Output A6. Referenced to VCCA.", 8 A7 (io) "Input/Output A7. Referenced to VCCA.", 9 A8 (io) "Input/Output A8. Referenced to VCCA.", 10 EN (in) "Active High Enable Input.", 11 GND (power) "Ground.", 12 Y8 (io) "Input/Output Y8. Referenced to VCCY.", 13 Y7 (io) "Input/Output Y7. Referenced to VCCY.", 14 Y6 (io) "Input/Output Y6. Referenced to VCCY.", 15 Y5 (io) "Input/Output Y5. Referenced to VCCY.", 16 Y4 (io) "Input/Output Y4. Referenced to VCCY.", 17 Y3 (io) "Input/Output Y3. Referenced to VCCY.", 18 Y2 (io) "Input/Output Y2. Referenced to VCCY.", 19 VCCY (power) "Power Supply Voltage Input for the Y1 to Y8 I/O pins (1.65 V =< VCCY =< 5.5 V).", 20 Y1 (io) "Input/Output Y1. Referenced to VCCY."

## ADG3301BKSZ-REEL
designator U?
Low Voltage 1.15 V to 5.5 V, Single-Channel Bidirectional Logic Level Translator, -40 to 85 degC, 6-pin SOT (KS-6), Reel; Manufacturer: Analog Devices; PartNumber: ADG3301BKSZ-REEL; Bus Enable Time (typ): 1us; DatasheetVersion: Rev. 0; PackageVersion: 072809-A, 07/2009; PackageReference: KS-6; PackageDescription: 6-Pin Thin Shrink Small Outline Transistor Package, Body 2 x 1.25 mm, Pitch 0.65 mm; Supplier 1: Digi-Key; Supplier Part Number 1: ADG3301BKSZ-REEL-ND; Supplier 2: Mouser; Supplier Part Number 2: 584-ADG3301BKSZ-R; Mounting Technology: Surface Mount; Code_JEDEC: MO-203-AB; ComponentLink1Description: Manufacturer URL; ComponentLink1URL: http://www.analog.com/en/index.html; ComponentLink2Description: Datasheet; ComponentLink2URL: http://www.analog.com/static/imported-files/data_sheets/ADG3301.pdf; ComponentLink3Description: Package Specification; ComponentLink3URL: http://www.analog.com/static/imported-files/packages/PKG_PDF/SC70(KS)/KS_6.pdf
footprint ADI-KS-6_N (SOT23, 6-Leads, Body 2x1.25mm, Pitch 0.65mm, IPC Medium Density)
footprint ADI-KS-6_L (SOT23, 6-Leads, Body 2x1.25mm, Pitch 0.65mm, IPC High Density)
footprint ADI-KS-6_M (SOT23, 6-Leads, Body 2x1.25mm, Pitch 0.65mm, IPC Low Density)
pins: 1 VCCA (power) "Power Supply Voltage Input for the A I/O Pin (1.15 V =< VCCA =< VCCY)", 2 A (io) "Input/Output A. Referenced to VCCA", 3 GND (power) "Ground (0 V).", 4 EN (in) "Active High Enable Input.", 5 Y (io) "Input/Output Y. Referenced to VCCY", 6 VCCY (power) "Power Supply Voltage Input for the Y I/O Pin (1.65 V =< VCCY =< 5.5V)."